# Altium schematic symbol library Connectors.SchLib: 35 symbols
Pins are listed as number, name and electrical type; pins without a type are passive.

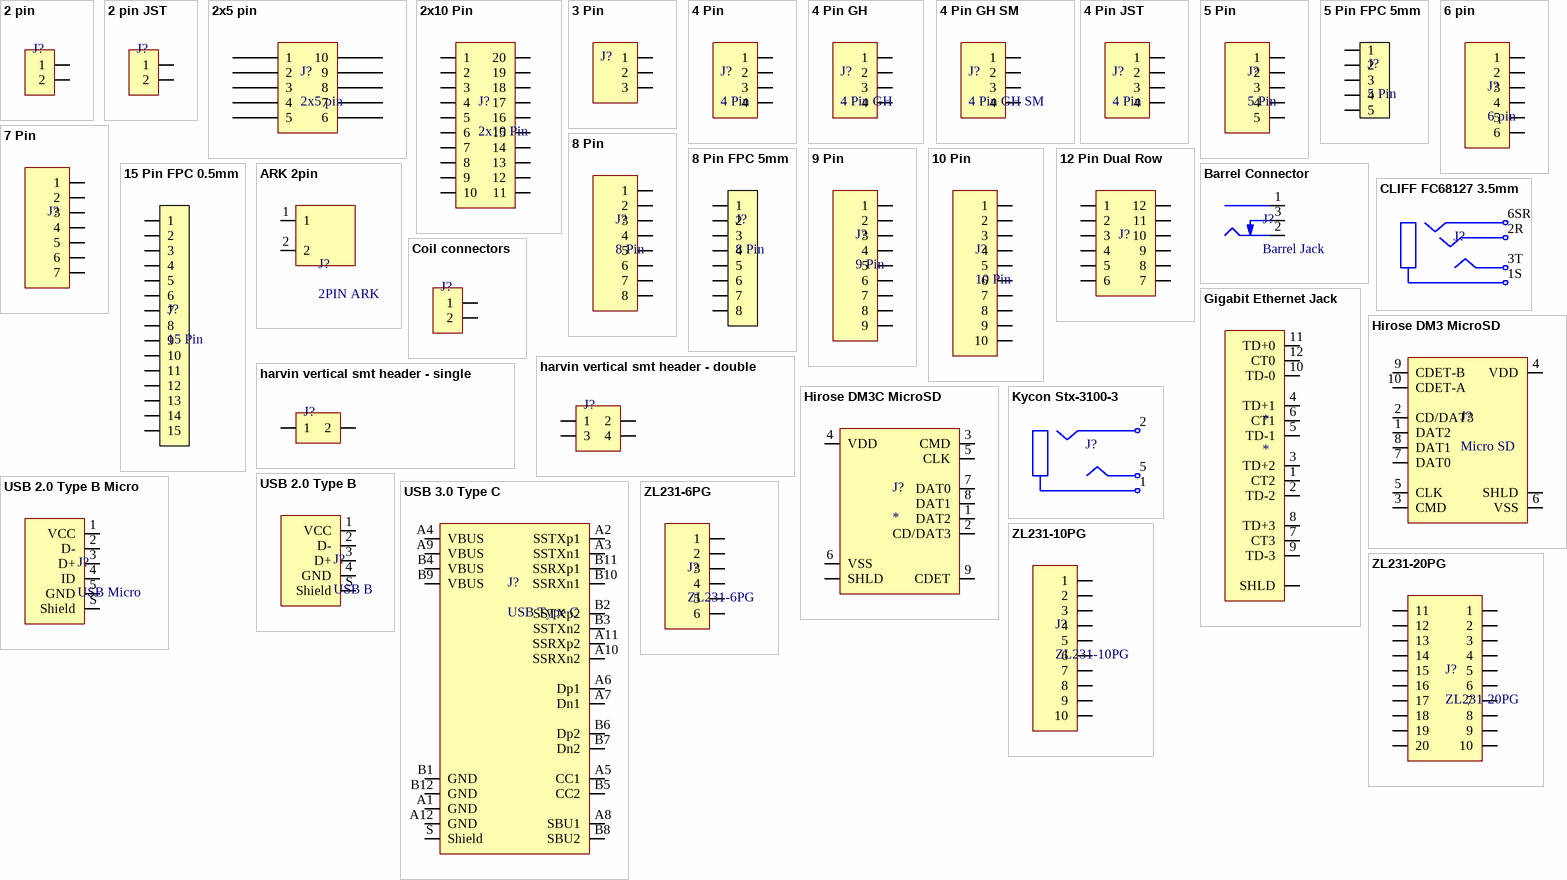
[diagram p0: symbols 2 pin to ZL231-20PG]

## 2 pin
designator J?  (value not drawn)
2 pin header, male
footprint HDR 1x2 2.54
pins: 1, 2 "Pin header"

## 2 pin JST
designator J?, comment 2 pin  (value not drawn)
2 pin JST socket, female
pins: 1, 2 "Pin header"

## 2x5 pin
designator J?
2x5 pin header, male
pins: 1, 2, 3, 4, 5, 6, 7, 8, 9, 10

## 2x10 Pin
designator J?
2x10 pin header, male
footprint J_THT_HDR_2x10
pins: 1, 2, 3, 4, 5, 6, 7, 8, 9, 10, 11, 12, 13, 14, 15, 16, 17, 18, 19, 20

## 3 Pin
designator J?  (value not drawn)
3 pin header, male
footprint HDR 1x3 2.54
pins: 1, 2, 3

## 4 Pin
designator J?
4 pin header, male
footprint HDR 1x4 2.54
pins: 1, 2, 3, 4

## 4 Pin GH
designator J?
Złącze GH, męskie, proste, 4 piny, SMD
footprint BM04B
pins: 1, 2, 3, 4

## 4 Pin GH SM
designator J?
Złącze GH, męskie, poziome, 4 piny, SMD
footprint SM04B
pins: 1, 2, 3, 4

## 4 Pin JST
designator J?, comment 4 Pin
4 pin JST socket, female
footprint JST B4B-PH-K
pins: 1, 2, 3, 4

## 5 Pin
designator J?
pins: 1, 2, 3, 4, 5

## 5 Pin FPC 5mm
designator J?, comment 5 Pin
footprint FPC_05P-0.5mm-RA-SMD (FPC, 5-Leads, Pitch 0,5mm)
pins: 1, 2, 3 (power), 4 (power), 5 (power)

## 6 pin
designator J?
6 pin header, male
footprint HDR 1x6 2.54
pins: 1, 2, 3, 4, 5, 6

## 7 Pin
designator J?
pins: 1, 2, 3, 4, 5, 6, 7

## 8 Pin
designator J?
pins: 1, 2, 3, 4, 5, 6, 7, 8

## 8 Pin FPC 5mm
designator J?, comment 8 Pin
footprint FPC_08P-0.5mm-RA-SMD (FPC, 8-Leads, Pitch 0,5mm)
pins: 1, 2, 3 (power), 4 (power), 5 (power), 6 (power), 7 (power), 8 (power)

## 9 Pin
designator J?
pins: 1, 2, 3, 4, 5, 6, 7, 8, 9

## 10 Pin
designator J?
pins: 1, 2, 3, 4, 5, 6, 7, 8, 9, 10

## 12 Pin Dual Row
designator J?
pins: 1, 2, 3, 4, 5, 6, 7, 8, 9, 10, 11, 12

## 15 Pin FPC 0.5mm
designator J?, comment 15 Pin
footprint FPC_15P-0.5mm-RA-SMD (FPC, 15-Leads, Pitch 0,5mm)
pins: 1, 2, 3 (power), 4 (power), 5 (power), 6 (power), 7 (power), 8 (power), 9, 10, 11 (power), 12 (power), 13 (power), 14 (power), 15 (power)

## ARK 2pin
designator J?, comment 2PIN ARK
WURTH ELEKTRONIK - 691103110002 - Wire-To-Board-Reihenklemme, 3.5 mm, 2 -polig, 26 AWG, 16 AWG, 1.5 mm², Schraubanschluss; Manufacturer: Wurth Electronics; Plating: Steel; Number of Contacts: 2; Number of Levels: 1; Current: 10A; Voltage: 125V; Pitch: 0.138inch; Wire Gauge (Max): 26AWG; Wire Gauge (Min): 16AWG; Stripping Length: -6mm; Supplier 1: Digi-Key; Manufacturer Part Number: 691103110002; Stock 1: 5097; Pricing 1: 1 = 0.83000, 10 = 0.73900, 50 = 0.63800, 100 = 0.57100, 500 = 0.53800, 1340 = 0.50400 (USD); RoHS: Yes; Mount: Through Hole; Color: Blue; Contact Material: Brass; Contact Plating: Tin; Housing Material: Nylon; Min Operating Temperature: -40°C; Max Operating Temperature: 105°C; Packaging: Bulk; Termination: Screw; Package Quantity: 1340; Number of Positions Per Level: 2; Voltage Rating: 125V; Current Rating: 10A; Length: 7mm; Height: 12.2mm; Width: 8mm; Wire/Cable Gauge: 26AWG; REACH SVHC: Unknown; ComponentLink1URL: https://datasheet.ciiva.com/823/6911031100xx-823632.pdf?src-supplier=Digi-Key; ComponentLink1Description: https://datasheet.ciiva.com/823/6911031100xx-823632.pdf?src-supplier=Digi-Key; ComponentLink2URL: https://datasheet.ciiva.com/7629/1442217-7629307.pdf?src-supplier=Element14; ComponentLink2Description: https://datasheet.ciiva.com/7629/1442217-7629307.pdf?src-supplier=Element14; ComponentLink3URL: https://datasheet.ciiva.com/46639/001088594-da-01-en-wr-tbl-terminal-block1031-691103110002-46639356.pdf?src-supplier=Conrad; ComponentLink3Description: https://datasheet.ciiva.com/46639/001088594-da-01-en-wr-tbl-terminal-block1031-691103110002-46639356.pdf?src-supplier=Conrad
pins: 1, 2

## Barrel Connector
designator J?, comment Barrel Jack
pins: 1 Centre, 2 Outer, 3 SW
1 alternate drawing of the same symbol

## CLIFF FC68127 3.5mm
designator J?, comment 4 pin  (value not drawn)
Jack 3,5mm, dock, female
footprint CLIFF FC68126 (Socket, Jack 3,5mm, female)
pins: 1S 1, 2R 2, 3T 3, 6SR 6

## Coil connectors
designator J?, comment coil connector  (value not drawn)
2 pin coil connector
footprint COIL PADS
pins: 1, 2 "Pin header"

## Gigabit Ethernet Jack
designator *
pins: 1 CT2, 2 TD-2, 3 TD+2, 4 TD+1, 5 TD-1, 6 CT1, 7 CT3, 8 TD+3, 9 TD-3, 10 TD-0, 11 TD+0, 12 CT0, S SHLD

## harvin vertical smt header - double
designator J?, comment 4 pin  (value not drawn)
4 pin vertical connection smt harvin
footprint Harwin vertical smt header - double
pins: 1, 2, 3, 4

## harvin vertical smt header - single
designator J?, comment 2 pin  (value not drawn)
2 pin vertical connection smt harvin
footprint Harwin vertical smt header - single
pins: 1, 2 "Pin header"

## Hirose DM3 MicroSD
designator J?, comment Micro SD
Micro sd card slot
footprint HIROSE DM3AT-SF-PEJM5
pins: 1 DAT2, 2 CD/DAT3, 3 CMD, 4 VDD, 5 CLK, 6 VSS, 7 DAT0, 8 DAT1, 9 CDET-B, 10 CDET-A, S SHLD

## Hirose DM3C MicroSD
designator J?
pins: 1 DAT2, 2 CD/DAT3, 3 CMD, 4 VDD, 5 CLK, 6 VSS, 7 DAT0, 8 DAT1, 9 CDET, S SHLD

## Kycon Stx-3100-3
designator J?, comment 3 pin  (value not drawn)
Jack 3,5mm, dock, female
footprint Kycon STX-3100-3 (Socket, Jack 3,5mm, female)
pins: 1, 2, 5

## USB 2.0 Type B
designator J?, comment USB B
pins: 1 VCC, 2 D-, 3 D+, 4 GND, S Shield

## USB 2.0 Type B Micro
designator J?, comment USB Micro
Micro usb
footprint FCI USB 10118193-0001LF (USB 2.0 Type B Micro)
pins: 1 VCC, 2 D-, 3 D+, 4 ID, 5 GND, S Shield

## USB 3.0 Type C
designator J?, comment USB Type C
pins: A1 GND, A2 SSTXp1, A3 SSTXn1, A4 VBUS, A5 CC1, A6 Dp1, A7 Dn1, A8 SBU1, A9 VBUS, A10 SSRXn2, A11 SSRXp2, A12 GND, B1 GND, B2 SSTXp2, B3 SSTXn2, B4 VBUS, B5 CC2, B6 Dp2, B7 Dn2, B8 SBU2, B9 VBUS, B10 SSRXn1, B11 SSRXp1, B12 GND, S Shield

## ZL231-6PG
designator J?
footprint PKG_ZL231-6PG_R2.54-V
pins: 1, 2, 3, 4, 5, 6

## ZL231-10PG
designator J?
footprint PKG_ZL231-10PG_R2.54-V
pins: 1, 2, 3, 4, 5, 6, 7, 8, 9, 10

## ZL231-20PG
designator J?
footprint PKG_ZL231-20PG_R2.54-V
pins: 1, 2, 3, 4, 5, 6, 7, 8, 9, 10, 11, 12, 13, 14, 15, 16, 17, 18, 19, 20